# Altium schematic symbol library symbols.SchLib: 1 symbol
Pins are listed as number, name and electrical type; pins without a type are passive.

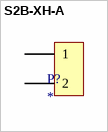
[diagram p0: symbol S2B-XH-A]

## S2B-XH-A
designator P?
JST pin header, 2.54 mm pitch, angled
footprint S2B-XH-A
pins: 1, 2